# Altium footprint library G125MH104M404AD000P.PcbLib: 1 footprints
Each footprint in its own frame and in the unit in brackets; x right, y up, seen from the top. Pads: shape width x height; smd on the part's side, far side on the other; paste and mask are expansions set on the pad; w line width, h text height; cw(c..) or ccw(c..) is an arc to the next point about the centre after c.
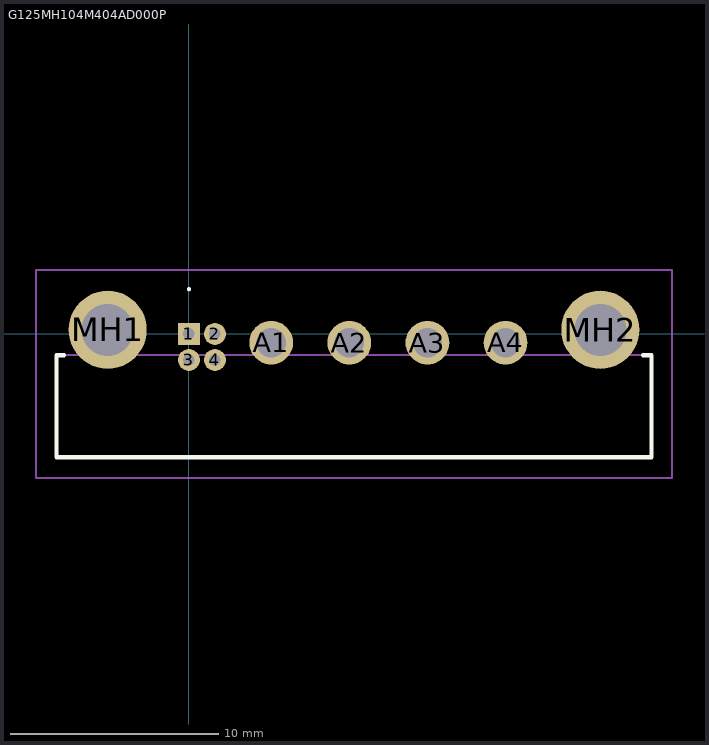
[diagram p0: the footprint, top view; thin cyan lines are the x and y axes]

## G125MH104M404AD000P [mm]
pads (10):
  rect 1.05x1.05 hole 0.55: 1(0,0)
  round 1.05 hole 0.55: 2(1.25,0) 3(0,-1.25) 4(1.25,-1.25)
  round 2.1 hole 1.4: A1(3.95,-0.42) A2(7.7,-0.42) A3(11.45,-0.42) A4(15.2,-0.42)
  round 3.75 hole 2.5: MH1(-3.9,0.2) MH2(19.75,0.2)
Top Overlay:
  lines w0.1: 0,2.1 0,2.1 ; 0,2.1 ccw(c0,2.15) 0,2.2 ; 0,2.1 cw(c0,2.15) 0,2.2 ; 0,2.2 0,2.2
  lines w0.2: -6,-1.02 -6.35,-1.02 -6.35,-5.92 22.2,-5.92 22.2,-1.02 21.8,-1.02
Mechanical 15:
  lines w0.1: -6.35,-5.92 22.2,-5.92 22.2,-1.02 -6.35,-1.02 -6.35,-5.92
Mechanical 20:
  lines w0.1: -7.35,-6.92 23.2,-6.92 23.2,3.075 -7.35,3.075 -7.35,-6.92